# EAGLE library part DIO5508XS8 (library DIO5508XS8)
Battery Management 1A Lithium Ion Battery Charger IC Source: Datasheet <https://www.mouser.co.uk/datasheet/2/802/dimi_s_a0009242516_1-2295248.pdf>
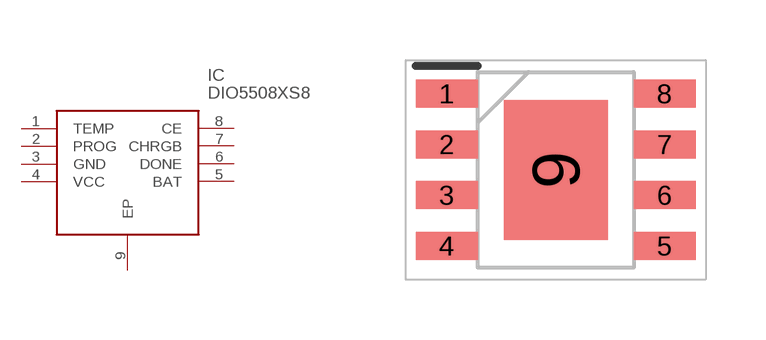
[diagram p0: symbol with the pads of SOIC127P600X170-9N; footprint SOIC127P600X170-9N]

Designator prefix IC

## DIO5508XS8 (Description: Battery Management 1A Lithium Ion Battery Charger IC; Height: 1.7mm; Manufacturer_Name: DIOO Microcircuits; Manufacturer_Part_Number: DIO5508XS8; Mouser_Part_Number: 453-DIO5508XS8; Mouser_Price-Stock: https://www.mouser.co.uk/ProductDetail/DIOO-Microcircuits/DIO5508XS8?qs=wUXugUrL1qzPv8nEmpxvyA%3D%3D)  [SOIC127P600X170-9N]
1  TEMP
2  PROG
3  GND
4  VCC
5  BAT
6  DONE
7  CHRGB
8  CE
9  EP

## Footprint SOIC127P600X170-9N (pad centres in mm)
EP-SOIC8
smd 1.55 x 0.7: 1 -2.725,1.905; 2 -2.725,0.635; 3 -2.725,-0.635; 4 -2.725,-1.905; 5 2.725,-1.905; 6 2.725,-0.635; 7 2.725,0.635; 8 2.725,1.905
smd 2.6 x 3.5: 9 0,0